# EAGLE library part TVS5 (library ads4)
5-channel TVS
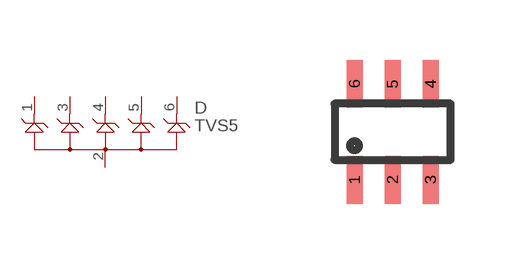
[diagram p106: symbol with the pads of SC74; footprint SC74]

Designator prefix D

## TVS5SC74  [SC74]
1  K1  pas
2  GND  pas
3  K2  pas
4  K3  pas
5  K4  pas
6  K5  pas

## Footprint SC74 (pad centres in mm)
Small Outline Transistor; 6 leads Reflow soldering SC74_INFINEON from refpackages.lbr, modified for narrower, longer pads
smd 0.4 x 1.2: 1 -0.95,-1.2; 2 0,-1.2; 3 0.95,-1.2; 4 0.95,1.2; 5 0,1.2; 6 -0.95,1.2